# Altium footprint library Chokes.PcbLib: 1 footprints
Each footprint in its own frame and in the unit in brackets; x right, y up, seen from the top. Pads: shape width x height; smd on the part's side, far side on the other; paste and mask are expansions set on the pad; w line width, h text height; cw(c..) or ccw(c..) is an arc to the next point about the centre after c.
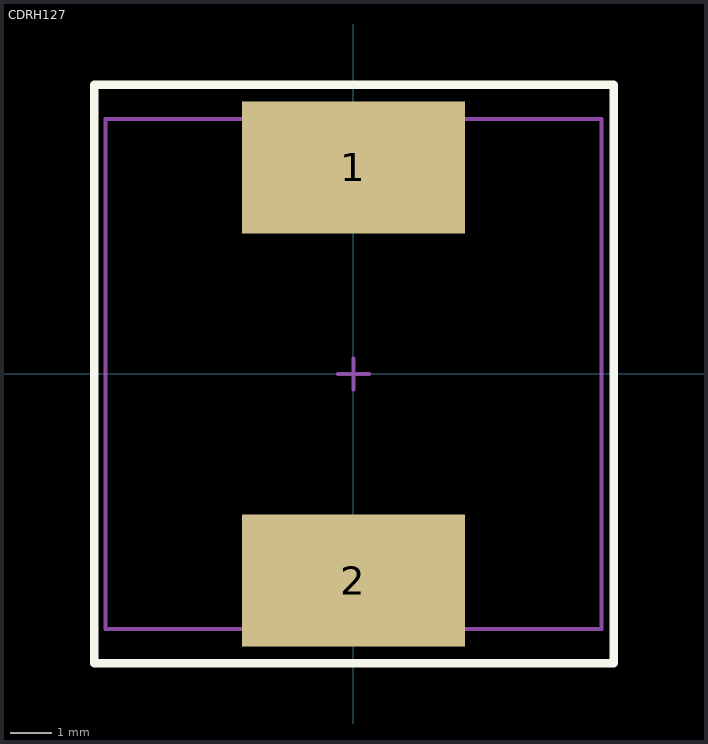
[diagram p0: the footprint, top view; thin cyan lines are the x and y axes]

## CDRH127 [mm]
pads (2):
  rect 5.4x3.2 smd: 1(0,5) 2(0,-5)
Top Overlay:
  lines w0.2: -6.275,-7 -6.275,7 6.3,7 6.3,-7 -6.275,-7
Top Assy:
  lines w0.1: -6,-6.175 -6,6.175 6,6.175 6,-6.175 -6,-6.175
Border (Mech15):
  lines w0.1: -6.275,7 -6.275,-7 -6.25,-7 6.3,-7 6.3,7 -6.25,7 ; -0.375,0 0,0 0.375,0 ; 0,-0.375 0,0.375
3D body "SUMIDA-CDRH127.step": height 7.5, standoff 0.05, extent -6,-6.171 6,6.171